# EAGLE library part LM2576S-5.0_NOPB (library SamacSys_Parts)
Switching Voltage Regulators 3A STEP-DOWN VLTG REG Source: Datasheet <http://www.ti.com/lit/ds/symlink/lm2576.pdf?HQS=TI-null-null-mousermode-df-pf-null-wwe&ts=1591174520046>
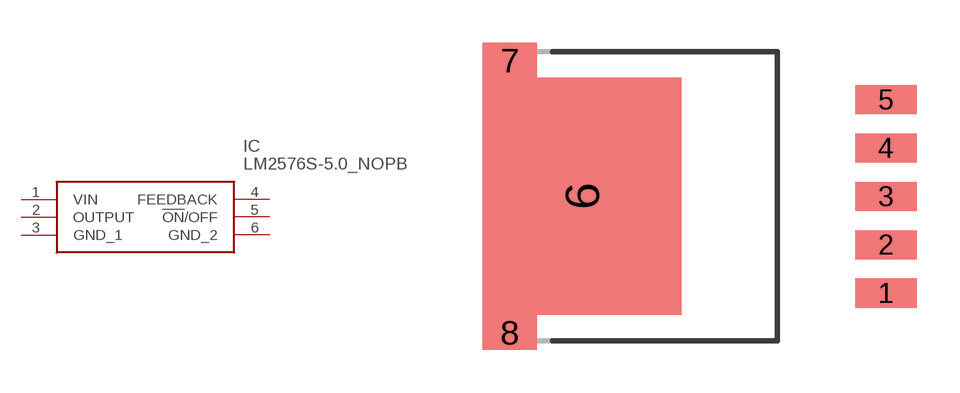
[diagram p191: symbol with the pads of KTT0005B; footprint KTT0005B]

Designator prefix IC

## LM2576S-5.0_NOPB (DESCRIPTION: Switching Voltage Regulators 3A STEP-DOWN VLTG REG; HEIGHT: mm; MANUFACTURER_NAME: Texas Instruments; MANUFACTURER_PART_NUMBER: LM2576S-5.0/NOPB; MOUSER_PART_NUMBER: 926-LM2576S-5.0/NOPB; MOUSER_PRICE-STOCK: https://www.mouser.co.uk/ProductDetail/Texas-Instruments/LM2576S-50-NOPB?qs=X1J7HmVL2ZEqJcmkiOcVvQ%3D%3D)  [KTT0005B]
1  VIN
2  OUTPUT
3  GND_1
4  FEEDBACK
5  !ON!/OFF
6  GND_2

## Footprint KTT0005B (pad centres in mm)
KTT0005B
smd 2.16 x 1.02: 1 12.461,-3.4; 2 12.461,-1.7; 3 12.461,0; 4 12.461,1.7; 5 12.461,3.4
smd 6.99 x 8.33: 6 1.786,0
smd 1.91 x 1.235: 7 -0.754,4.782; 8 -0.754,-4.782